# Altium footprint library FCI SMD.PcbLib: 11 footprints
Each footprint in its own frame and in the unit in brackets; x right, y up, seen from the top. Pads: shape width x height; smd on the part's side, far side on the other; paste and mask are expansions set on the pad; w line width, h text height; cw(c..) or ccw(c..) is an arc to the next point about the centre after c.
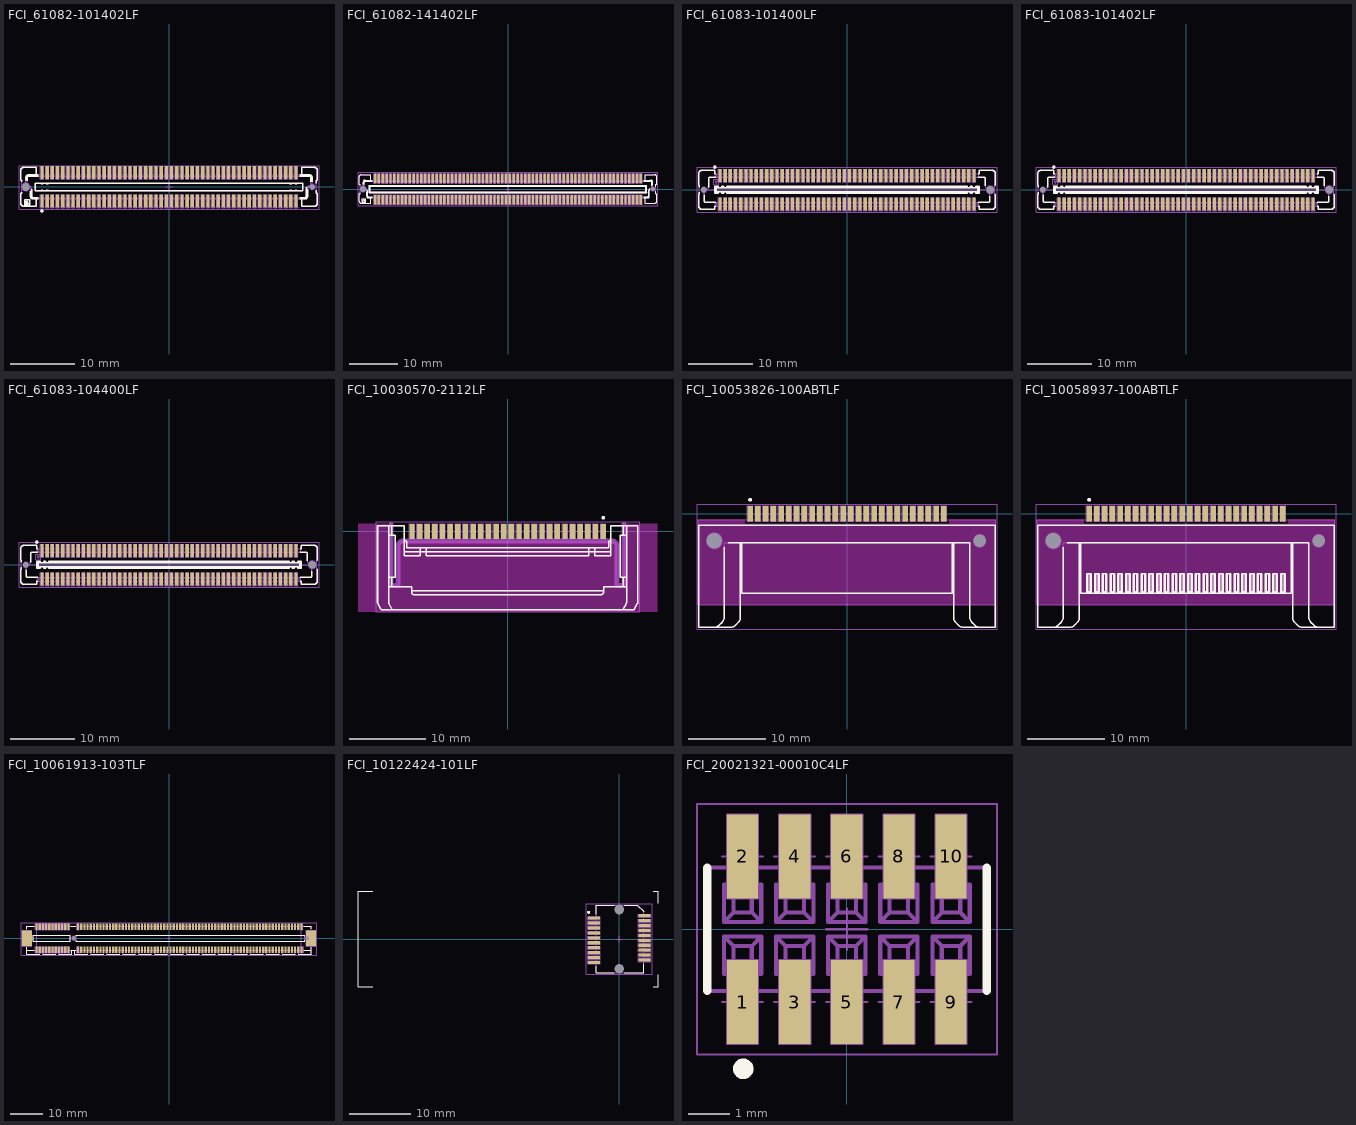
[diagram p0: the footprints below, top view; thin cyan lines are the x and y axes]

## FCI_61082-101402LF [mm] "100 Positions, Pitch 0.8mm, Dual Row, Surface Mount Board to Board Vertical Receptacle, Bergstak®"
height 4
pads (102):
  rect 0.5x2 smd: 1(-19.6,-2.2) 2(-19.6,2.2) 3(-18.8,-2.2) 4(-18.8,2.2) 5(-18,-2.2) 6(-18,2.2) 7(-17.2,-2.2) 8(-17.2,2.2) 9(-16.4,-2.2) 10(-16.4,2.2) 11(-15.6,-2.2) 12(-15.6,2.2) 13(-14.8,-2.2) 14(-14.8,2.2) 15(-14,-2.2) 16(-14,2.2) 17(-13.2,-2.2) 18(-13.2,2.2) 19(-12.4,-2.2) 20(-12.4,2.2) 21(-11.6,-2.2) 22(-11.6,2.2) 23(-10.8,-2.2) 24(-10.8,2.2) 25(-10,-2.2) 26(-10,2.2) 27(-9.2,-2.2) 28(-9.2,2.2) 29(-8.4,-2.2) 30(-8.4,2.2) 31(-7.6,-2.2) 32(-7.6,2.2) 33(-6.8,-2.2) 34(-6.8,2.2) 35(-6,-2.2) 36(-6,2.2) 37(-5.2,-2.2) 38(-5.2,2.2) 39(-4.4,-2.2) 40(-4.4,2.2) 41(-3.6,-2.2) 42(-3.6,2.2) 43(-2.8,-2.2) 44(-2.8,2.2) 45(-2,-2.2) 46(-2,2.2) 47(-1.2,-2.2) 48(-1.2,2.2) 49(-0.4,-2.2) 50(-0.4,2.2) 51(0.4,-2.2) 52(0.4,2.2) 53(1.2,-2.2) 54(1.2,2.2) 55(2,-2.2) 56(2,2.2) 57(2.8,-2.2) 58(2.8,2.2) 59(3.6,-2.2) 60(3.6,2.2) 61(4.4,-2.2) 62(4.4,2.2) 63(5.2,-2.2) 64(5.2,2.2) 65(6,-2.2) 66(6,2.2) 67(6.8,-2.2) 68(6.8,2.2) 69(7.6,-2.2) 70(7.6,2.2) 71(8.4,-2.2) 72(8.4,2.2) 73(9.2,-2.2) 74(9.2,2.2) 75(10,-2.2) 76(10,2.2) 77(10.8,-2.2) 78(10.8,2.2) 79(11.6,-2.2) 80(11.6,2.2) 81(12.4,-2.2) 82(12.4,2.2) 83(13.2,-2.2) 84(13.2,2.2) 85(14,-2.2) 86(14,2.2) 87(14.8,-2.2) 88(14.8,2.2) 89(15.6,-2.2) 90(15.6,2.2) 91(16.4,-2.2) 92(16.4,2.2) 93(17.2,-2.2) 94(17.2,2.2) 95(18,-2.2) 96(18,2.2) 97(18.8,-2.2) 98(18.8,2.2) 99(19.6,-2.2) 100(19.6,2.2)
  round 0.5 hole 0.8 unplated mask+0.15: Mec1(22.1,0)
  round 1 hole 1.2 unplated mask+0.1: Mec2(-22.1,0)
Top Overlay:
  circle w0.25: c-19.625,-3.7 r0.125
  lines w0.2: -22.7,-0.8 -22.7,-1 -22.9,-1 -22.9,-2.5 ccw(c-22.4,-2.5) -22.4,-3 -20.525,-3 -20.525,-1.85 ; -22.7,0.8 -22.7,1 -22.9,1 -22.9,2.5 cw(c-22.4,2.5) -22.4,3 -20.525,3 -20.525,1.85 ; -22.075,1 -22.075,1.45 cw(c-21.675,1.45) -21.675,1.85 -20.2,1.85 ; -21.875,0.974 -21.875,1.45 cw(c-21.675,1.45) -21.675,1.65 -20.2,1.65 ; -21.38,-0.694 -21.38,-1.45 ccw(c-20.98,-1.45) -20.98,-1.85 -20.2,-1.85 ; -21.18,-0.392 -21.18,-1.45 ccw(c-20.98,-1.45) -20.98,-1.65 -20.2,-1.65 ; -19.75,-0.57 -19.75,-0.49 -19.45,-0.49 -19.45,-0.57 ; -19.75,0.57 -19.75,0.49 -19.45,0.49 -19.45,0.57 ; -18.95,-0.57 -18.95,-0.49 -18.65,-0.49 -18.65,-0.57 ; -18.95,0.57 -18.95,0.49 -18.65,0.49 -18.65,0.57 ; 18.65,-0.57 18.65,-0.49 18.95,-0.49 18.95,-0.57 ; 18.65,0.57 18.65,0.49 18.95,0.49 18.95,0.57 ; 19.45,-0.57 19.45,-0.49 19.75,-0.49 19.75,-0.57 ; 19.45,0.57 19.45,0.49 19.75,0.49 19.75,0.57 ; 20.2,-1.85 20.98,-1.85 ccw(c20.98,-1.45) 21.38,-1.45 21.38,-0.35 cw(c21.68,-0.35) 21.38,-0.349 ; 20.2,-1.65 20.98,-1.65 ccw(c20.98,-1.45) 21.18,-1.45 21.18,-0.35 cw(c21.68,-0.35) 21.3,-0.025 ; 20.2,1.65 21.675,1.65 cw(c21.675,1.45) 21.875,1.45 21.875,0.768 ; 20.2,1.85 21.675,1.85 cw(c21.675,1.45) 22.075,1.45 22.075,0.8 ; 20.525,-1.85 20.525,-3 22.4,-3 ccw(c22.4,-2.5) 22.9,-2.5 22.9,-1 22.7,-1 22.7,-0.529 ; 20.525,1.85 20.525,3 22.4,3 cw(c22.4,2.5) 22.9,2.5 22.9,1 22.7,1 22.7,0.529 ; -22.3,-2.8 -21.5,-2.8 -21.5,-2 -22.3,-2 -22.3,-2.8 ; -22.15,-2.6 -21.688,-2.6 -21.919,-2.2 -22.15,-2.6 ; -20.615,-0.57 -20.615,0.57 20.615,0.57 20.615,-0.57 -20.615,-0.57
Mechanical 8:
  drawing of 614 lines, arcs and shapes, not listed
Mechanical 14:
  circle w0.1: c-19.625,-3.7 r0.2
  lines w0.1: -20.525,-1.85 -20.525,-3 -22.4,-3 cw(c-22.4,-2.5) -22.9,-2.5 -22.9,-1 -22.7,-1 -22.7,1 -22.9,1 -22.9,2.5 cw(c-22.4,2.5) -22.4,3 -20.525,3 -20.525,1.85 ; -19.75,-0.57 -19.75,-0.49 -19.45,-0.49 -19.45,-0.57 ; -19.75,0.57 -19.75,0.49 -19.45,0.49 -19.45,0.57 ; -18.95,-0.57 -18.95,-0.49 -18.65,-0.49 -18.65,-0.57 ; -18.95,0.57 -18.95,0.49 -18.65,0.49 -18.65,0.57 ; 18.65,-0.57 18.65,-0.49 18.95,-0.49 18.95,-0.57 ; 18.65,0.57 18.65,0.49 18.95,0.49 18.95,0.57 ; 19.45,-0.57 19.45,-0.49 19.75,-0.49 19.75,-0.57 ; 19.45,0.57 19.45,0.49 19.75,0.49 19.75,0.57 ; 20.525,-1.85 20.525,-3 22.4,-3 ccw(c22.4,-2.5) 22.9,-2.5 22.9,-1 22.7,-1 22.7,1 22.9,1 22.9,2.5 ccw(c22.4,2.5) 22.4,3 20.525,3 20.525,1.85 ; -22.3,-2.8 -21.5,-2.8 -21.5,-2 -22.3,-2 -22.3,-2.8 ; -22.15,-2.6 -21.688,-2.6 -21.919,-2.2 -22.15,-2.6 ; -22.075,0.35 ccw(c-21.675,0.35) -21.678,-0.05 cw(c-21.68,-0.35) -21.38,-0.35 -21.38,-1.45 ccw(c-20.98,-1.45) -20.98,-1.85 20.98,-1.85 ccw(c20.98,-1.45) 21.38,-1.45 21.38,-0.35 cw(c21.68,-0.35) 21.678,-0.05 ccw(c21.675,0.35) 22.075,0.35 22.075,1.45 ccw(c21.675,1.45) 21.675,1.85 -21.675,1.85 ccw(c-21.675,1.45) -22.075,1.45 -22.075,0.35 ; -21.875,0.35 ccw(c-21.675,0.35) -21.676,0.15 cw(c-21.68,-0.35) -21.18,-0.35 -21.18,-1.45 ccw(c-20.98,-1.45) -20.98,-1.65 20.98,-1.65 ccw(c20.98,-1.45) 21.18,-1.45 21.18,-0.35 cw(c21.68,-0.35) 21.676,0.15 ccw(c21.675,0.35) 21.875,0.35 21.875,1.45 ccw(c21.675,1.45) 21.675,1.65 -21.675,1.65 ccw(c-21.675,1.45) -21.875,1.45 -21.875,0.35 ; -20.615,-0.57 -20.615,0.57 20.615,0.57 20.615,-0.57 -20.615,-0.57
Mechanical 15:
  lines w0.05: -23.15,-3.45 -23.15,3.25 23.15,3.25 23.15,-3.45 -23.15,-3.45
3D body "FCI_61082-101402LF.stp": height 3.7, standoff -0.64, extent -22.9,-3 22.9,3

## FCI_61082-141402LF [mm] "140 Positions, Pitch 0.8mm, Dual Row, Surface Mount Board to Board Vertical Receptacle, Bergstak®"
height 3.7
pads (142):
  rect 0.5x2 smd: 1(-27.6,-2.2) 2(-27.6,2.2) 3(-26.8,-2.2) 4(-26.8,2.2) 5(-26,-2.2) 6(-26,2.2) 7(-25.2,-2.2) 8(-25.2,2.2) 9(-24.4,-2.2) 10(-24.4,2.2) 11(-23.6,-2.2) 12(-23.6,2.2) 13(-22.8,-2.2) 14(-22.8,2.2) 15(-22,-2.2) 16(-22,2.2) 17(-21.2,-2.2) 18(-21.2,2.2) 19(-20.4,-2.2) 20(-20.4,2.2) 21(-19.6,-2.2) 22(-19.6,2.2) 23(-18.8,-2.2) 24(-18.8,2.2) 25(-18,-2.2) 26(-18,2.2) 27(-17.2,-2.2) 28(-17.2,2.2) 29(-16.4,-2.2) 30(-16.4,2.2) 31(-15.6,-2.2) 32(-15.6,2.2) 33(-14.8,-2.2) 34(-14.8,2.2) 35(-14,-2.2) 36(-14,2.2) 37(-13.2,-2.2) 38(-13.2,2.2) 39(-12.4,-2.2) 40(-12.4,2.2) 41(-11.6,-2.2) 42(-11.6,2.2) 43(-10.8,-2.2) 44(-10.8,2.2) 45(-10,-2.2) 46(-10,2.2) 47(-9.2,-2.2) 48(-9.2,2.2) 49(-8.4,-2.2) 50(-8.4,2.2) 51(-7.6,-2.2) 52(-7.6,2.2) 53(-6.8,-2.2) 54(-6.8,2.2) 55(-6,-2.2) 56(-6,2.2) 57(-5.2,-2.2) 58(-5.2,2.2) 59(-4.4,-2.2) 60(-4.4,2.2) 61(-3.6,-2.2) 62(-3.6,2.2) 63(-2.8,-2.2) 64(-2.8,2.2) 65(-2,-2.2) 66(-2,2.2) 67(-1.2,-2.2) 68(-1.2,2.2) 69(-0.4,-2.2) 70(-0.4,2.2) 71(0.4,-2.2) 72(0.4,2.2) 73(1.2,-2.2) 74(1.2,2.2) 75(2,-2.2) 76(2,2.2) 77(2.8,-2.2) 78(2.8,2.2) 79(3.6,-2.2) 80(3.6,2.2) 81(4.4,-2.2) 82(4.4,2.2) 83(5.2,-2.2) 84(5.2,2.2) 85(6,-2.2) 86(6,2.2) 87(6.8,-2.2) 88(6.8,2.2) 89(7.6,-2.2) 90(7.6,2.2) 91(8.4,-2.2) 92(8.4,2.2) 93(9.2,-2.2) 94(9.2,2.2) 95(10,-2.2) 96(10,2.2) 97(10.8,-2.2) 98(10.8,2.2) 99(11.6,-2.2) 100(11.6,2.2) 101(12.4,-2.2) 102(12.4,2.2) 103(13.2,-2.2) 104(13.2,2.2) 105(14,-2.2) 106(14,2.2) 107(14.8,-2.2) 108(14.8,2.2) 109(15.6,-2.2) 110(15.6,2.2) 111(16.4,-2.2) 112(16.4,2.2) 113(17.2,-2.2) 114(17.2,2.2) 115(18,-2.2) 116(18,2.2) 117(18.8,-2.2) 118(18.8,2.2) 119(19.6,-2.2) 120(19.6,2.2) 121(20.4,-2.2) 122(20.4,2.2) 123(21.2,-2.2) 124(21.2,2.2) 125(22,-2.2) 126(22,2.2) 127(22.8,-2.2) 128(22.8,2.2) 129(23.6,-2.2) 130(23.6,2.2) 131(24.4,-2.2) 132(24.4,2.2) 133(25.2,-2.2) 134(25.2,2.2) 135(26,-2.2) 136(26,2.2) 137(26.8,-2.2) 138(26.8,2.2) 139(27.6,-2.2) 140(27.6,2.2)
  round 1 hole 1.2 unplated mask+0.1: MECH1(-30.1,0)
  round 0.5 hole 0.8 unplated mask+0.15: MECH2(30.1,0)
Top Overlay:
  lines w0.2: -30.7,-0.737 -30.7,-1 -30.9,-1 -30.9,-2.5 ccw(c-30.4,-2.5) -30.4,-3 -28.525,-3 -28.525,-1.85 ; -30.7,0.737 -30.7,1 -30.9,1 -30.9,2.5 cw(c-30.4,2.5) -30.4,3 -28.525,3 -28.525,1.85 ; -30.075,0.95 -30.075,1.45 cw(c-29.675,1.45) -29.675,1.85 -28.2,1.85 ; -29.875,0.923 -29.875,1.45 cw(c-29.675,1.45) -29.675,1.65 -28.2,1.65 ; -29.38,-0.62 -29.38,-1.45 ccw(c-28.98,-1.45) -28.98,-1.85 -28.2,-1.85 ; -29.187,-0.264 cw(c-29.68,-0.35) -29.18,-0.35 -29.18,-1.45 ccw(c-28.98,-1.45) -28.98,-1.65 -28.2,-1.65 ; -28.814,-0.769 -28.615,-0.57 ; 28.2,-1.85 28.98,-1.85 ccw(c28.98,-1.45) 29.38,-1.45 29.38,-0.35 cw(c29.68,-0.35) 29.395,-0.256 ; 28.2,-1.65 28.98,-1.65 ccw(c28.98,-1.45) 29.18,-1.45 29.18,-0.35 cw(c29.68,-0.35) 29.35,0.026 ; 28.2,1.65 29.675,1.65 cw(c29.675,1.45) 29.875,1.45 29.875,0.715 ; 28.2,1.85 29.675,1.85 cw(c29.675,1.45) 30.075,1.45 30.075,0.75 ; 28.525,-1.85 28.525,-3 30.4,-3 ccw(c30.4,-2.5) 30.9,-2.5 30.9,-1 30.7,-1 30.7,-0.45 ; 28.525,1.85 28.525,3 30.4,3 cw(c30.4,2.5) 30.9,2.5 30.9,1 30.7,1 30.7,0.45 ; 28.814,0.769 -28.815,0.77 ; -28.815,0.77 -28.615,0.57 ; -28.815,0.77 -28.815,-0.77 28.815,-0.77 ; -28.615,-0.57 -28.615,0.57 ; -28.615,-0.57 28.615,-0.57 ; -28.615,0.57 28.615,0.57 ; 28.615,-0.57 28.815,-0.77 ; 28.615,-0.57 28.615,0.57 ; 28.615,0.57 28.815,0.77 28.815,-0.77 ; -30.3,-2.8 -30.3,-2 -29.5,-2 -29.5,-2.8 -30.3,-2.8 ; -30.15,-2.6 -29.688,-2.6 -29.919,-2.2 -30.15,-2.6
Mechanical 8:
  drawing of 854 lines, arcs and shapes, not listed
Mechanical 14:
  drawing of 489 lines, arcs and shapes, not listed
Mechanical 15:
  lines w0.05: -31.15,-3.45 31.15,-3.45 31.15,3.45 -31.15,3.45 -31.15,-3.45
3D body "FCI_61082-141402LF.stp": height 3.7, standoff -0.65, extent -30.9,-3 30.9,3

## FCI_61083-101400LF [mm] "100 Positions, Pitch 0.8mm, Dual Row, Surface Mount Board to Board Vertical Header, Bergstak®"
height 4.7
pads (102):
  rect 0.5x2 smd: 1(-19.6,2.2) 2(-19.6,-2.2) 3(-18.8,2.2) 4(-18.8,-2.2) 5(-18,2.2) 6(-18,-2.2) 7(-17.2,2.2) 8(-17.2,-2.2) 9(-16.4,2.2) 10(-16.4,-2.2) 11(-15.6,2.2) 12(-15.6,-2.2) 13(-14.8,2.2) 14(-14.8,-2.2) 15(-14,2.2) 16(-14,-2.2) 17(-13.2,2.2) 18(-13.2,-2.2) 19(-12.4,2.2) 20(-12.4,-2.2) 21(-11.6,2.2) 22(-11.6,-2.2) 23(-10.8,2.2) 24(-10.8,-2.2) 25(-10,2.2) 26(-10,-2.2) 27(-9.2,2.2) 28(-9.2,-2.2) 29(-8.4,2.2) 30(-8.4,-2.2) 31(-7.6,2.2) 32(-7.6,-2.2) 33(-6.8,2.2) 34(-6.8,-2.2) 35(-6,2.2) 36(-6,-2.2) 37(-5.2,2.2) 38(-5.2,-2.2) 39(-4.4,2.2) 40(-4.4,-2.2) 41(-3.6,2.2) 42(-3.6,-2.2) 43(-2.8,2.2) 44(-2.8,-2.2) 45(-2,2.2) 46(-2,-2.2) 47(-1.2,2.2) 48(-1.2,-2.2) 49(-0.4,2.2) 50(-0.4,-2.2) 51(0.4,2.2) 52(0.4,-2.2) 53(1.2,2.2) 54(1.2,-2.2) 55(2,2.2) 56(2,-2.2) 57(2.8,2.2) 58(2.8,-2.2) 59(3.6,2.2) 60(3.6,-2.2) 61(4.4,2.2) 62(4.4,-2.2) 63(5.2,2.2) 64(5.2,-2.2) 65(6,2.2) 66(6,-2.2) 67(6.8,2.2) 68(6.8,-2.2) 69(7.6,2.2) 70(7.6,-2.2) 71(8.4,2.2) 72(8.4,-2.2) 73(9.2,2.2) 74(9.2,-2.2) 75(10,2.2) 76(10,-2.2) 77(10.8,2.2) 78(10.8,-2.2) 79(11.6,2.2) 80(11.6,-2.2) 81(12.4,2.2) 82(12.4,-2.2) 83(13.2,2.2) 84(13.2,-2.2) 85(14,2.2) 86(14,-2.2) 87(14.8,2.2) 88(14.8,-2.2) 89(15.6,2.2) 90(15.6,-2.2) 91(16.4,2.2) 92(16.4,-2.2) 93(17.2,2.2) 94(17.2,-2.2) 95(18,2.2) 96(18,-2.2) 97(18.8,2.2) 98(18.8,-2.2) 99(19.6,2.2) 100(19.6,-2.2)
  round 0.5 hole 0.8 unplated mask+0.15: Mec1(-22.1,0)
  round 1 hole 1.2 unplated mask+0.1: Mec2(22.1,0)
Top Overlay:
  circle w0.25: c-20.4,3.5 r0.125
  lines w0.2: -22.8,-0.387 -22.8,-0.7 -22.9,-0.7 -22.9,-2.5 ccw(c-22.4,-2.5) -22.4,-3 -20.4,-3 -20.4,-2.5 -20.25,-2.5 ; -22.8,0.387 -22.8,0.7 -22.9,0.7 -22.9,2.5 cw(c-22.4,2.5) -22.4,3 -20.4,3 -20.4,2.5 -20.25,2.5 ; -22.015,-0.795 -22.015,-1.8 ccw(c-21.915,-1.8) -21.915,-1.9 -20.25,-1.9 ; -21.393,0.375 ccw(c-21.84,0.6) -21.34,0.6 -21.34,1.8 cw(c-21.24,1.8) -21.24,1.9 -20.25,1.9 ; -19.847,-0.325 -19.847,-0.515 -20.4,-0.515 ; -19.847,0.325 -19.847,0.515 -20.4,0.515 ; -19.354,-0.325 -19.354,-0.515 -19.047,-0.515 -19.047,-0.325 ; -19.354,0.325 -19.354,0.515 -19.047,0.515 -19.047,0.325 ; -18.554,-0.325 -18.554,-0.515 18.554,-0.515 18.554,-0.325 ; -18.554,0.325 -18.554,0.515 18.554,0.515 18.554,0.325 ; 19.047,-0.325 19.047,-0.515 19.354,-0.515 19.354,-0.325 ; 19.047,0.325 19.047,0.515 19.354,0.515 19.354,0.325 ; 19.847,-0.325 19.847,-0.515 20.4,-0.515 ; 19.847,0.325 19.847,0.515 20.4,0.515 ; 20.25,-2.5 20.4,-2.5 20.4,-3 22.4,-3 ccw(c22.4,-2.5) 22.9,-2.5 22.9,-0.7 22.814,-0.7 ; 20.25,-1.9 21.915,-1.9 ccw(c21.915,-1.8) 22.015,-1.8 22.015,-0.996 ; 20.25,1.9 21.24,1.9 cw(c21.24,1.8) 21.34,1.8 21.34,0.65 ; 20.25,2.5 20.4,2.5 20.4,3 22.4,3 cw(c22.4,2.5) 22.9,2.5 22.9,0.7 22.814,0.7 ; -20.4,-0.515 -20.21,-0.325 ; -20.4,-0.515 -20.4,0.515 ; -20.4,0.515 -20.21,0.325 ; -20.21,-0.325 -20.21,0.325 ; -20.21,-0.325 20.21,-0.325 ; -20.21,0.325 20.21,0.325 ; 20.21,-0.325 20.4,-0.515 ; 20.21,-0.325 20.21,0.325 ; 20.21,0.325 20.4,0.515 ; 20.4,-0.515 20.4,0.515
Mechanical 8:
  drawing of 615 lines, arcs and shapes, not listed
Mechanical 14:
  circle w0.1: c-20.4,3.5 r0.2
  lines w0.1: -20.325,-2.5 -20.325,-2 20.325,-2 20.325,-2.5 ; -20.325,2.5 -20.325,2 20.325,2 20.325,2.5 ; -20.248,-2 -20.075,-2.2 -20.075,-2.5 ; -20.248,2 -20.075,2.2 -20.075,2.5 ; -19.847,-0.325 -19.847,-0.515 -20.4,-0.515 ; -19.847,0.325 -19.847,0.515 -20.4,0.515 ; -19.354,-0.325 -19.354,-0.515 -19.047,-0.515 -19.047,-0.325 ; -19.354,0.325 -19.354,0.515 -19.047,0.515 -19.047,0.325 ; -18.554,-0.325 -18.554,-0.515 18.554,-0.515 18.554,-0.325 ; -18.554,0.325 -18.554,0.515 18.554,0.515 18.554,0.325 ; 19.047,-0.325 19.047,-0.515 19.354,-0.515 19.354,-0.325 ; 19.047,0.325 19.047,0.515 19.354,0.515 19.354,0.325 ; 19.847,-0.325 19.847,-0.515 20.4,-0.515 ; 19.847,0.325 19.847,0.515 20.4,0.515 ; 20.075,-2.5 20.075,-2.2 20.248,-2 ; -20.4,-0.515 -20.21,-0.325 ; -20.4,-0.515 -20.4,0.515 ; -20.4,0.515 -20.21,0.325 ; -20.21,-0.325 -20.21,0.325 ; -20.21,-0.325 20.21,-0.325 ; -20.21,0.325 20.21,0.325 ; 20.21,-0.325 20.4,-0.515 ; 20.21,-0.325 20.21,0.325 ; 20.21,0.325 20.4,0.515 ; 20.4,-0.515 20.4,0.515 ; -22.9,-2.5 ccw(c-22.4,-2.5) -22.4,-3 -20.4,-3 -20.4,-2.5 20.4,-2.5 20.4,-3 22.4,-3 ccw(c22.4,-2.5) 22.9,-2.5 22.9,-0.7 22.8,-0.7 22.8,0.7 22.9,0.7 22.9,2.5 ccw(c22.4,2.5) 22.4,3 20.4,3 20.4,2.5 -20.4,2.5 -20.4,3 -22.4,3 ccw(c-22.4,2.5) -22.9,2.5 -22.9,0.7 -22.8,0.7 -22.8,-0.7 -22.9,-0.7 -22.9,-2.5 ; -22.015,-1.8 ccw(c-21.915,-1.8) -21.915,-1.9 21.915,-1.9 ccw(c21.915,-1.8) 22.015,-1.8 22.015,0 ccw(c21.915,0) 21.915,0.1 21.84,0.1 cw(c21.84,0.6) 21.34,0.6 21.34,1.8 ccw(c21.24,1.8) 21.24,1.9 -21.24,1.9 ccw(c-21.24,1.8) -21.34,1.8 -21.34,0.6 cw(c-21.84,0.6) -21.84,0.1 -21.915,0.1 ccw(c-21.915,0) -22.015,0 -22.015,-1.8 ; -20.6,0.8 -20.6,1.6 -19.8,1.6 -19.8,0.8 -20.6,0.8 ; -20.412,1.4 -20.181,1 -19.95,1.4 -20.412,1.4
Mechanical 15:
  lines w0.05: -23.15,-3.45 -23.15,3.45 23.15,3.45 23.15,-3.45 -23.15,-3.45
3D body "FCI_61083-101400LF.stp": height 4.7, standoff -0.65, extent -22.9,-3 22.9,3

## FCI_61083-101402LF [mm] "100 Positions, Pitch 0.8mm, Dual Row, Surface Mount Board to Board Vertical Header, Bergstak®"
height 4.7
pads (102):
  rect 0.5x2 smd: 1(-19.6,2.2) 2(-19.6,-2.2) 3(-18.8,2.2) 4(-18.8,-2.2) 5(-18,2.2) 6(-18,-2.2) 7(-17.2,2.2) 8(-17.2,-2.2) 9(-16.4,2.2) 10(-16.4,-2.2) 11(-15.6,2.2) 12(-15.6,-2.2) 13(-14.8,2.2) 14(-14.8,-2.2) 15(-14,2.2) 16(-14,-2.2) 17(-13.2,2.2) 18(-13.2,-2.2) 19(-12.4,2.2) 20(-12.4,-2.2) 21(-11.6,2.2) 22(-11.6,-2.2) 23(-10.8,2.2) 24(-10.8,-2.2) 25(-10,2.2) 26(-10,-2.2) 27(-9.2,2.2) 28(-9.2,-2.2) 29(-8.4,2.2) 30(-8.4,-2.2) 31(-7.6,2.2) 32(-7.6,-2.2) 33(-6.8,2.2) 34(-6.8,-2.2) 35(-6,2.2) 36(-6,-2.2) 37(-5.2,2.2) 38(-5.2,-2.2) 39(-4.4,2.2) 40(-4.4,-2.2) 41(-3.6,2.2) 42(-3.6,-2.2) 43(-2.8,2.2) 44(-2.8,-2.2) 45(-2,2.2) 46(-2,-2.2) 47(-1.2,2.2) 48(-1.2,-2.2) 49(-0.4,2.2) 50(-0.4,-2.2) 51(0.4,2.2) 52(0.4,-2.2) 53(1.2,2.2) 54(1.2,-2.2) 55(2,2.2) 56(2,-2.2) 57(2.8,2.2) 58(2.8,-2.2) 59(3.6,2.2) 60(3.6,-2.2) 61(4.4,2.2) 62(4.4,-2.2) 63(5.2,2.2) 64(5.2,-2.2) 65(6,2.2) 66(6,-2.2) 67(6.8,2.2) 68(6.8,-2.2) 69(7.6,2.2) 70(7.6,-2.2) 71(8.4,2.2) 72(8.4,-2.2) 73(9.2,2.2) 74(9.2,-2.2) 75(10,2.2) 76(10,-2.2) 77(10.8,2.2) 78(10.8,-2.2) 79(11.6,2.2) 80(11.6,-2.2) 81(12.4,2.2) 82(12.4,-2.2) 83(13.2,2.2) 84(13.2,-2.2) 85(14,2.2) 86(14,-2.2) 87(14.8,2.2) 88(14.8,-2.2) 89(15.6,2.2) 90(15.6,-2.2) 91(16.4,2.2) 92(16.4,-2.2) 93(17.2,2.2) 94(17.2,-2.2) 95(18,2.2) 96(18,-2.2) 97(18.8,2.2) 98(18.8,-2.2) 99(19.6,2.2) 100(19.6,-2.2)
  round 0.5 hole 0.8 unplated mask+0.15: Mec1(-22.1,0)
  round 1 hole 1.2 unplated mask+0.1: Mec2(22.1,0)
Top Overlay:
  circle w0.25: c-20.4,3.5 r0.125
  lines w0.2: -22.8,-0.387 -22.8,-0.7 -22.9,-0.7 -22.9,-2.5 ccw(c-22.4,-2.5) -22.4,-3 -20.4,-3 -20.4,-2.5 -20.25,-2.5 ; -22.8,0.387 -22.8,0.7 -22.9,0.7 -22.9,2.5 cw(c-22.4,2.5) -22.4,3 -20.4,3 -20.4,2.5 -20.25,2.5 ; -22.015,-0.795 -22.015,-1.8 ccw(c-21.915,-1.8) -21.915,-1.9 -20.25,-1.9 ; -21.393,0.375 ccw(c-21.84,0.6) -21.34,0.6 -21.34,1.8 cw(c-21.24,1.8) -21.24,1.9 -20.25,1.9 ; -19.847,-0.325 -19.847,-0.515 -20.4,-0.515 ; -19.847,0.325 -19.847,0.515 -20.4,0.515 ; -19.354,-0.325 -19.354,-0.515 -19.047,-0.515 -19.047,-0.325 ; -19.354,0.325 -19.354,0.515 -19.047,0.515 -19.047,0.325 ; -18.554,-0.325 -18.554,-0.515 18.554,-0.515 18.554,-0.325 ; -18.554,0.325 -18.554,0.515 18.554,0.515 18.554,0.325 ; 19.047,-0.325 19.047,-0.515 19.354,-0.515 19.354,-0.325 ; 19.047,0.325 19.047,0.515 19.354,0.515 19.354,0.325 ; 19.847,-0.325 19.847,-0.515 20.4,-0.515 ; 19.847,0.325 19.847,0.515 20.4,0.515 ; 20.25,-2.5 20.4,-2.5 20.4,-3 22.4,-3 ccw(c22.4,-2.5) 22.9,-2.5 22.9,-0.7 22.814,-0.7 ; 20.25,-1.9 21.915,-1.9 ccw(c21.915,-1.8) 22.015,-1.8 22.015,-0.996 ; 20.25,1.9 21.24,1.9 cw(c21.24,1.8) 21.34,1.8 21.34,0.65 ; 20.25,2.5 20.4,2.5 20.4,3 22.4,3 cw(c22.4,2.5) 22.9,2.5 22.9,0.7 22.814,0.7 ; -20.4,-0.515 -20.21,-0.325 ; -20.4,-0.515 -20.4,0.515 ; -20.4,0.515 -20.21,0.325 ; -20.21,-0.325 -20.21,0.325 ; -20.21,-0.325 20.21,-0.325 ; -20.21,0.325 20.21,0.325 ; 20.21,-0.325 20.4,-0.515 ; 20.21,-0.325 20.21,0.325 ; 20.21,0.325 20.4,0.515 ; 20.4,-0.515 20.4,0.515
Mechanical 8:
  drawing of 615 lines, arcs and shapes, not listed
Mechanical 14:
  circle w0.1: c-20.4,3.5 r0.2
  lines w0.1: -20.325,-2.5 -20.325,-2 20.325,-2 20.325,-2.5 ; -20.325,2.5 -20.325,2 20.325,2 20.325,2.5 ; -20.248,-2 -20.075,-2.2 -20.075,-2.5 ; -20.248,2 -20.075,2.2 -20.075,2.5 ; -19.847,-0.325 -19.847,-0.515 -20.4,-0.515 ; -19.847,0.325 -19.847,0.515 -20.4,0.515 ; -19.354,-0.325 -19.354,-0.515 -19.047,-0.515 -19.047,-0.325 ; -19.354,0.325 -19.354,0.515 -19.047,0.515 -19.047,0.325 ; -18.554,-0.325 -18.554,-0.515 18.554,-0.515 18.554,-0.325 ; -18.554,0.325 -18.554,0.515 18.554,0.515 18.554,0.325 ; 19.047,-0.325 19.047,-0.515 19.354,-0.515 19.354,-0.325 ; 19.047,0.325 19.047,0.515 19.354,0.515 19.354,0.325 ; 19.847,-0.325 19.847,-0.515 20.4,-0.515 ; 19.847,0.325 19.847,0.515 20.4,0.515 ; 20.075,-2.5 20.075,-2.2 20.248,-2 ; -20.4,-0.515 -20.21,-0.325 ; -20.4,-0.515 -20.4,0.515 ; -20.4,0.515 -20.21,0.325 ; -20.21,-0.325 -20.21,0.325 ; -20.21,-0.325 20.21,-0.325 ; -20.21,0.325 20.21,0.325 ; 20.21,-0.325 20.4,-0.515 ; 20.21,-0.325 20.21,0.325 ; 20.21,0.325 20.4,0.515 ; 20.4,-0.515 20.4,0.515 ; -22.9,-2.5 ccw(c-22.4,-2.5) -22.4,-3 -20.4,-3 -20.4,-2.5 20.4,-2.5 20.4,-3 22.4,-3 ccw(c22.4,-2.5) 22.9,-2.5 22.9,-0.7 22.8,-0.7 22.8,0.7 22.9,0.7 22.9,2.5 ccw(c22.4,2.5) 22.4,3 20.4,3 20.4,2.5 -20.4,2.5 -20.4,3 -22.4,3 ccw(c-22.4,2.5) -22.9,2.5 -22.9,0.7 -22.8,0.7 -22.8,-0.7 -22.9,-0.7 -22.9,-2.5 ; -22.015,-1.8 ccw(c-21.915,-1.8) -21.915,-1.9 21.915,-1.9 ccw(c21.915,-1.8) 22.015,-1.8 22.015,0 ccw(c21.915,0) 21.915,0.1 21.84,0.1 cw(c21.84,0.6) 21.34,0.6 21.34,1.8 ccw(c21.24,1.8) 21.24,1.9 -21.24,1.9 ccw(c-21.24,1.8) -21.34,1.8 -21.34,0.6 cw(c-21.84,0.6) -21.84,0.1 -21.915,0.1 ccw(c-21.915,0) -22.015,0 -22.015,-1.8 ; -20.6,0.8 -20.6,1.6 -19.8,1.6 -19.8,0.8 -20.6,0.8 ; -20.412,1.4 -20.181,1 -19.95,1.4 -20.412,1.4
Mechanical 15:
  lines w0.05: -23.15,-3.45 -23.15,3.45 23.15,3.45 23.15,-3.45 -23.15,-3.45
3D body "FCI_61083-101402LF.stp": height 4.7, standoff -0.65, extent -22.9,-3 22.9,3

## FCI_61083-104400LF [mm] "100 Positions, Pitch 0.8mm, Dual Row, Surface Mount Board to Board Vertical Header, Bergstak®"
height 7.7
pads (102):
  rect 0.5x2 smd: 1(-19.6,2.2) 2(-19.6,-2.2) 3(-18.8,2.2) 4(-18.8,-2.2) 5(-18,2.2) 6(-18,-2.2) 7(-17.2,2.2) 8(-17.2,-2.2) 9(-16.4,2.2) 10(-16.4,-2.2) 11(-15.6,2.2) 12(-15.6,-2.2) 13(-14.8,2.2) 14(-14.8,-2.2) 15(-14,2.2) 16(-14,-2.2) 17(-13.2,2.2) 18(-13.2,-2.2) 19(-12.4,2.2) 20(-12.4,-2.2) 21(-11.6,2.2) 22(-11.6,-2.2) 23(-10.8,2.2) 24(-10.8,-2.2) 25(-10,2.2) 26(-10,-2.2) 27(-9.2,2.2) 28(-9.2,-2.2) 29(-8.4,2.2) 30(-8.4,-2.2) 31(-7.6,2.2) 32(-7.6,-2.2) 33(-6.8,2.2) 34(-6.8,-2.2) 35(-6,2.2) 36(-6,-2.2) 37(-5.2,2.2) 38(-5.2,-2.2) 39(-4.4,2.2) 40(-4.4,-2.2) 41(-3.6,2.2) 42(-3.6,-2.2) 43(-2.8,2.2) 44(-2.8,-2.2) 45(-2,2.2) 46(-2,-2.2) 47(-1.2,2.2) 48(-1.2,-2.2) 49(-0.4,2.2) 50(-0.4,-2.2) 51(0.4,2.2) 52(0.4,-2.2) 53(1.2,2.2) 54(1.2,-2.2) 55(2,2.2) 56(2,-2.2) 57(2.8,2.2) 58(2.8,-2.2) 59(3.6,2.2) 60(3.6,-2.2) 61(4.4,2.2) 62(4.4,-2.2) 63(5.2,2.2) 64(5.2,-2.2) 65(6,2.2) 66(6,-2.2) 67(6.8,2.2) 68(6.8,-2.2) 69(7.6,2.2) 70(7.6,-2.2) 71(8.4,2.2) 72(8.4,-2.2) 73(9.2,2.2) 74(9.2,-2.2) 75(10,2.2) 76(10,-2.2) 77(10.8,2.2) 78(10.8,-2.2) 79(11.6,2.2) 80(11.6,-2.2) 81(12.4,2.2) 82(12.4,-2.2) 83(13.2,2.2) 84(13.2,-2.2) 85(14,2.2) 86(14,-2.2) 87(14.8,2.2) 88(14.8,-2.2) 89(15.6,2.2) 90(15.6,-2.2) 91(16.4,2.2) 92(16.4,-2.2) 93(17.2,2.2) 94(17.2,-2.2) 95(18,2.2) 96(18,-2.2) 97(18.8,2.2) 98(18.8,-2.2) 99(19.6,2.2) 100(19.6,-2.2)
  round 0.5 hole 0.8 unplated mask+0.15: Mec1(-22.1,0)
  round 1 hole 1.2 unplated mask+0.1: Mec2(22.1,0)
Top Overlay:
  circle w0.25: c-20.4,3.5 r0.125
  lines w0.2: -22.8,-0.387 -22.8,-0.7 -22.9,-0.7 -22.9,-2.5 ccw(c-22.4,-2.5) -22.4,-3 -20.4,-3 -20.4,-2.5 -20.25,-2.5 ; -22.8,0.387 -22.8,0.7 -22.9,0.7 -22.9,2.5 cw(c-22.4,2.5) -22.4,3 -20.4,3 -20.4,2.5 -20.25,2.5 ; -22.015,-0.795 -22.015,-1.8 ccw(c-21.915,-1.8) -21.915,-1.9 -20.25,-1.9 ; -21.393,0.375 ccw(c-21.84,0.6) -21.34,0.6 -21.34,1.8 cw(c-21.24,1.8) -21.24,1.9 -20.25,1.9 ; -19.847,-0.325 -19.847,-0.515 -20.4,-0.515 ; -19.847,0.325 -19.847,0.515 -20.4,0.515 ; -19.354,-0.325 -19.354,-0.515 -19.047,-0.515 -19.047,-0.325 ; -19.354,0.325 -19.354,0.515 -19.047,0.515 -19.047,0.325 ; -18.554,-0.325 -18.554,-0.515 18.554,-0.515 18.554,-0.325 ; -18.554,0.325 -18.554,0.515 18.554,0.515 18.554,0.325 ; 19.047,-0.325 19.047,-0.515 19.354,-0.515 19.354,-0.325 ; 19.047,0.325 19.047,0.515 19.354,0.515 19.354,0.325 ; 19.847,-0.325 19.847,-0.515 20.4,-0.515 ; 19.847,0.325 19.847,0.515 20.4,0.515 ; 20.25,-2.5 20.4,-2.5 20.4,-3 22.4,-3 ccw(c22.4,-2.5) 22.9,-2.5 22.9,-0.7 22.814,-0.7 ; 20.25,-1.9 21.915,-1.9 ccw(c21.915,-1.8) 22.015,-1.8 22.015,-0.996 ; 20.25,1.9 21.24,1.9 cw(c21.24,1.8) 21.34,1.8 21.34,0.65 ; 20.25,2.5 20.4,2.5 20.4,3 22.4,3 cw(c22.4,2.5) 22.9,2.5 22.9,0.7 22.814,0.7 ; -20.4,-0.515 -20.4,0.515 ; -20.4,-0.515 -20.21,-0.325 ; -20.4,0.515 -20.21,0.325 ; -20.21,-0.325 20.21,-0.325 ; -20.21,-0.325 -20.21,0.325 ; -20.21,0.325 20.21,0.325 ; 20.21,-0.325 20.21,0.325 ; 20.21,-0.325 20.4,-0.515 ; 20.21,0.325 20.4,0.515 ; 20.4,-0.515 20.4,0.515
Mechanical 8:
  drawing of 615 lines, arcs and shapes, not listed
Mechanical 14:
  circle w0.1: c-20.4,3.5 r0.2
  lines w0.1: -20.325,-2.5 -20.325,-2 20.325,-2 20.325,-2.5 ; -20.325,2.5 -20.325,2 20.325,2 20.325,2.5 ; -20.248,-2 -20.075,-2.2 -20.075,-2.5 ; -20.248,2 -20.075,2.2 -20.075,2.5 ; -19.847,-0.325 -19.847,-0.515 -20.4,-0.515 ; -19.847,0.325 -19.847,0.515 -20.4,0.515 ; -19.354,-0.325 -19.354,-0.515 -19.047,-0.515 -19.047,-0.325 ; -19.354,0.325 -19.354,0.515 -19.047,0.515 -19.047,0.325 ; -18.554,-0.325 -18.554,-0.515 18.554,-0.515 18.554,-0.325 ; -18.554,0.325 -18.554,0.515 18.554,0.515 18.554,0.325 ; 19.047,-0.325 19.047,-0.515 19.354,-0.515 19.354,-0.325 ; 19.047,0.325 19.047,0.515 19.354,0.515 19.354,0.325 ; 19.847,-0.325 19.847,-0.515 20.4,-0.515 ; 19.847,0.325 19.847,0.515 20.4,0.515 ; 20.075,-2.5 20.075,-2.2 20.248,-2 ; -20.4,-0.515 -20.4,0.515 ; -20.4,-0.515 -20.21,-0.325 ; -20.4,0.515 -20.21,0.325 ; -20.21,-0.325 20.21,-0.325 ; -20.21,-0.325 -20.21,0.325 ; -20.21,0.325 20.21,0.325 ; 20.21,-0.325 20.21,0.325 ; 20.21,-0.325 20.4,-0.515 ; 20.21,0.325 20.4,0.515 ; 20.4,-0.515 20.4,0.515 ; -22.9,-2.5 ccw(c-22.4,-2.5) -22.4,-3 -20.4,-3 -20.4,-2.5 20.4,-2.5 20.4,-3 22.4,-3 ccw(c22.4,-2.5) 22.9,-2.5 22.9,-0.7 22.8,-0.7 22.8,0.7 22.9,0.7 22.9,2.5 ccw(c22.4,2.5) 22.4,3 20.4,3 20.4,2.5 -20.4,2.5 -20.4,3 -22.4,3 ccw(c-22.4,2.5) -22.9,2.5 -22.9,0.7 -22.8,0.7 -22.8,-0.7 -22.9,-0.7 -22.9,-2.5 ; -22.015,-1.8 ccw(c-21.915,-1.8) -21.915,-1.9 21.915,-1.9 ccw(c21.915,-1.8) 22.015,-1.8 22.015,0 ccw(c21.915,0) 21.915,0.1 21.84,0.1 cw(c21.84,0.6) 21.34,0.6 21.34,1.8 ccw(c21.24,1.8) 21.24,1.9 -21.24,1.9 ccw(c-21.24,1.8) -21.34,1.8 -21.34,0.6 cw(c-21.84,0.6) -21.84,0.1 -21.915,0.1 ccw(c-21.915,0) -22.015,0 -22.015,-1.8 ; -20.6,0.8 -19.8,0.8 -19.8,1.6 -20.6,1.6 -20.6,0.8 ; -20.412,1.4 -19.95,1.4 -20.181,1 -20.412,1.4
Mechanical 15:
  lines w0.05: -23.15,-3.45 23.15,-3.45 23.15,3.45 -23.15,3.45 -23.15,-3.45
3D body "FCI_61083-104400LF.stp": height 7.7, standoff -0.65, extent -22.9,-3 22.9,3

## FCI_10030570-2112LF [mm] "26 Contacts, Pitch 1mm, Surface Mount Card Edge ExpressCard Module Connector"
height 2.13
pads (26):
  rect 0.7x2 smd: 1(12.5,0) 2(11.5,0) 3(10.5,0) 4(9.5,0) 5(8.5,0) 6(7.5,0) 7(6.5,0) 8(5.5,0) 9(4.5,0) 10(3.5,0) 11(2.5,0) 12(1.5,0) 13(0.5,0) 14(-0.5,0) 15(-1.5,0) 16(-2.5,0) 17(-3.5,0) 18(-4.5,0) 19(-5.5,0) 20(-6.5,0) 21(-7.5,0) 22(-8.5,0) 23(-9.5,0) 24(-10.5,0) 25(-11.5,0) 26(-12.5,0)
Top Overlay:
  circle w0.25: c12.5,1.8 r0.125
  lines w0.2: -15.55,-7.25 -12.55,-7.25 -12.55,-7.95 ccw(c-12.25,-7.95) -12.25,-8.25 12.25,-8.25 ccw(c12.25,-7.95) 12.55,-7.95 12.55,-7.25 15.55,-7.25 ; -15.55,0.75 -15.55,-0.5 ; -15.15,-7.25 -15.15,-6 ; -15.15,-0.5 -15.15,0.75 ; -14.935,-10.25 cw(c-14.935,-10.05) -15.108,-10.15 -15.5,-9.471 cw(c-15.161,-9.278) -15.55,-9.25 -15.55,-6 ; -13.5,-2.65 13.5,-2.65 ; -12.55,-7.75 12.55,-7.75 ; -11.4,-2.15 -11.4,-3.15 -13.5,-3.15 -13.5,-1 ; -10.6,-2.15 -10.6,-3.15 10.6,-3.15 10.6,-2.15 ; 11.4,-2.15 11.4,-3.15 13.5,-3.15 13.5,-1 ; 14.935,-10.25 ccw(c14.935,-10.05) 15.108,-10.15 15.5,-9.471 ccw(c15.161,-9.278) 15.55,-9.25 15.55,-6 ; 15.15,-7.25 15.15,-6 ; 15.15,-0.5 15.15,0.75 ; 15.55,0.75 15.55,-0.5 ; -15.55,-6 -15.55,-0.5 ; -15.55,-6 -14.7,-6 -14.7,-0.5 -15.55,-0.5 ; -13.5,-1 ccw(c-13.25,-1) -13.25,-1.25 -13.2,-1.25 -13.2,-2.15 13.2,-2.15 13.2,-1.25 13.25,-1.25 ccw(c13.25,-1) 13.5,-1 ; -13.5,-1 -13.5,0.75 -17,0.75 -17,-9.33 ccw(c-16.8,-9.33) -16.973,-9.43 -16.558,-10.15 ccw(c-16.385,-10.05) -16.385,-10.25 16.385,-10.25 ccw(c16.385,-10.05) 16.558,-10.15 16.973,-9.43 ccw(c16.8,-9.33) 17,-9.33 17,0.75 13.5,0.75 13.5,-1 ; 15.55,-6 14.7,-6 14.7,-0.5 15.55,-0.5 ; 15.55,-6 15.55,-0.5
Keep-Out Layer:
  board cut-out: -19.55,-10.5 -19.55,1 -15.2,1 -15.2,-7.05 -14.3,-7.05 -14.3,-1.85 -14.3,-1.731 -14.209,-1.51 -14.04,-1.341 -13.819,-1.25 -13.7,-1.25 13.7,-1.25 13.819,-1.25 14.04,-1.341 14.209,-1.51 14.3,-1.731 14.3,-1.85 14.3,-7.05 15.2,-7.05 15.2,1 19.55,1 19.55,-10.5
Mechanical 1:
  lines w0.635: -15.2,1 -15.2,-7.05 -14.3,-7.05 -14.3,-1.85 cw(c-13.7,-1.85) -13.7,-1.25 13.7,-1.25 cw(c13.7,-1.85) 14.3,-1.85 14.3,-7.05 15.2,-7.05 15.2,1
Mechanical 8:
  drawing of 186 lines, arcs and shapes, not listed
Mechanical 14:
  lines w0.1: -15.55,-7.25 -12.55,-7.25 -12.55,-7.95 ccw(c-12.25,-7.95) -12.25,-8.25 12.25,-8.25 ccw(c12.25,-7.95) 12.55,-7.95 12.55,-7.25 15.55,-7.25 ; -15.55,0.75 -15.55,-0.5 ; -15.15,-7.25 -15.15,-6 ; -15.15,-0.5 -15.15,0.75 ; -14.935,-10.25 cw(c-14.935,-10.05) -15.108,-10.15 -15.5,-9.471 cw(c-15.161,-9.278) -15.55,-9.25 -15.55,-6 ; -13.5,-2.65 13.5,-2.65 ; -12.55,-7.75 12.55,-7.75 ; -11.4,-2.15 -11.4,-3.15 -13.5,-3.15 -13.5,-1 ; -10.6,-2.15 -10.6,-3.15 10.6,-3.15 10.6,-2.15 ; 11.4,-2.15 11.4,-3.15 13.5,-3.15 13.5,-1 ; 14.935,-10.25 ccw(c14.935,-10.05) 15.108,-10.15 15.5,-9.471 ccw(c15.161,-9.278) 15.55,-9.25 15.55,-6 ; 15.15,-7.25 15.15,-6 ; 15.15,-0.5 15.15,0.75 ; 15.55,0.75 15.55,-0.5 ; -15.55,-6 -15.55,-0.5 ; -15.55,-6 -14.7,-6 -14.7,-0.5 -15.55,-0.5 ; -13.5,-1 ccw(c-13.25,-1) -13.25,-1.25 -13.2,-1.25 -13.2,-2.15 13.2,-2.15 13.2,-1.25 13.25,-1.25 ccw(c13.25,-1) 13.5,-1 ; -13.5,-1 -13.5,0.75 -17,0.75 -17,-9.33 ccw(c-16.8,-9.33) -16.973,-9.43 -16.558,-10.15 ccw(c-16.385,-10.05) -16.385,-10.25 16.385,-10.25 ccw(c16.385,-10.05) 16.558,-10.15 16.973,-9.43 ccw(c16.8,-9.33) 17,-9.33 17,0.75 13.5,0.75 13.5,-1 ; 15.55,-6 14.7,-6 14.7,-0.5 15.55,-0.5 ; 15.55,-6 15.55,-0.5
Mechanical 15:
  lines w0.05: -17.25,-10.5 17.25,-10.5 17.25,1.25 -17.25,1.25 -17.25,-10.5
Drill Drawing:
  lines w0.1: -15.2,0 -15.2,2 ; -14.3,-5.45 -14.3,-3.45 ; -14.26,0.658 -15.2,1 ; -14.26,1.342 -15.2,1 ; -13.702,-2.332 -14.124,-1.426 ; -13.36,-4.792 -14.3,-4.45 ; -13.36,-4.108 -14.3,-4.45 ; -13.218,-1.848 -14.124,-1.426 ; -11.2,-2.877 -12.673,-2.877 -14.124,-1.426 ; -4.1,1 -15.2,1 ; 3.116,1 15.2,1 ; 8.174,-4.45 -14.3,-4.45 ; 10.438,-7.05 13.7,-7.05 ; 10.438,-1.25 13.7,-1.25 ; 11.095,-6.11 11.438,-7.05 ; 11.095,-2.19 11.438,-1.25 ; 11.78,-6.11 11.438,-7.05 ; 11.78,-2.19 11.438,-1.25 ; 12.26,-4.45 14.3,-4.45 ; 13.36,-4.792 14.3,-4.45 ; 13.36,-4.108 14.3,-4.45 ; 14.26,0.658 15.2,1 ; 14.26,1.342 15.2,1 ; 14.3,-5.45 14.3,-3.45 ; 15.2,0 15.2,2 ; 15.8,-7.05 19.663,-7.05 ; 15.8,1 19.663,1 ; 18.32,-6.11 18.663,-7.05 ; 18.32,0.06 18.663,1 ; 19.005,-6.11 18.663,-7.05 ; 19.005,0.06 18.663,1 ; 11.438,-7.05 11.438,-1.25 ; 18.663,-7.05 18.663,1
  text "+0" at 16.6,-2 h1
  text "-0.1" at 17.9,-2 h1
  text "8.05" at 18.425,-5.225 h1
  text "+" at -0.493,0.15 h1
  text "-0.1" at -0.493,0.947 h1
  text "30.4" at 2.65,1.65 h1
  text "+" at -0.827,-6.311 h1
  text "-0.05" at -0.827,-5.539 h1
  text "28.6" at 2.2,-4.825 h1
  text "+0" at 8.823,-3.734 h1
  text "-0.1" at 10.148,-3.709 h1
  text "5.8" at 11.05,-5.8 h1
  text "r0.6" at -8.4,-2.4 h1
3D body "FCI_10030570-2112LF.stp": height 2.33, standoff -2.67, extent -17,-10.25 17,0.75

## FCI_10053826-100ABTLF [mm] "26 Contacts, Pitch 1mm, Surface Mount ExpressCard Host Connector"
height 5.5
pads (28):
  rect 0.7x2 smd: 1(-12.5,0) 2(-11.5,0) 3(-10.5,0) 4(-9.5,0) 5(-8.5,0) 6(-7.5,0) 7(-6.5,0) 8(-5.5,0) 9(-4.5,0) 10(-3.5,0) 11(-2.5,0) 12(-1.5,0) 13(-0.5,0) 14(0.5,0) 15(1.5,0) 16(2.5,0) 17(3.5,0) 18(4.5,0) 19(5.5,0) 20(6.5,0) 21(7.5,0) 22(8.5,0) 23(9.5,0) 24(10.5,0) 25(11.5,0) 26(12.5,0)
  round 1 hole 2 unplated mask+0.5: Mec1(-17.1,-3.5)
  round 1 hole 1.6 unplated mask+0.3: Mec2(17.1,-3.5)
Top Layer keep-out:
  region: -19.2,-0.8 -13.2,-0.8 -13.2,-1.3 13.2,-1.3 13.2,-0.8 19.2,-0.8 19.2,-11.75 -19.2,-11.75
Top Overlay:
  circle w0.25: c-12.5,1.8 r0.125
  lines w0.2: -17.032,-14.648 ccw(c-17.094,-13.819) -16.497,-14.397 -16.1,-14 ccw(c-16.676,-13.408) -15.85,-13.397 -15.85,-4.3 ; -15.3,-3.75 15.85,-3.75 15.85,-13.397 ccw(c16.676,-13.408) 16.1,-14 16.497,-14.397 ccw(c17.094,-13.819) 17.107,-14.65 ; -13.754,-3.75 -13.754,-13.5 cw(c-14.55,-13.419) -13.984,-13.984 -14.416,-14.416 cw(c-14.981,-13.85) -14.981,-14.65 -19.1,-14.65 -19.1,-1.5 19.1,-1.5 19.1,-14.65 14.981,-14.65 cw(c14.981,-13.85) 14.416,-14.416 13.984,-13.984 cw(c14.55,-13.419) 13.754,-13.5 13.754,-3.75 ; -13.6,-3.75 -13.6,-10.25 13.6,-10.25 13.6,-3.75
Mechanical 8:
  drawing of 174 lines, arcs and shapes, not listed
Mechanical 14:
  lines w0.1: -17.032,-14.648 ccw(c-17.094,-13.819) -16.497,-14.397 -16.1,-14 ccw(c-16.676,-13.408) -15.85,-13.397 -15.85,-3.75 15.85,-3.75 15.85,-13.397 ccw(c16.676,-13.408) 16.1,-14 16.497,-14.397 ccw(c17.094,-13.819) 17.107,-14.65 ; -13.754,-3.75 -13.754,-13.5 cw(c-14.55,-13.419) -13.984,-13.984 -14.416,-14.416 cw(c-14.981,-13.85) -14.981,-14.65 -19.1,-14.65 -19.1,-1.5 19.1,-1.5 19.1,-14.65 14.981,-14.65 cw(c14.981,-13.85) 14.416,-14.416 13.984,-13.984 cw(c14.55,-13.419) 13.754,-13.5 13.754,-3.75 ; -13.6,-3.75 -13.6,-10.25 13.6,-10.25 13.6,-3.75
Mechanical 15:
  lines w0.05: -19.35,-14.9 19.35,-14.9 19.35,1.25 -19.35,1.25 -19.35,-14.9
3D body "FCI_10053826-100ABTLF.stp": height 5.5, standoff -0.9, extent -19.55,-14.65 19.1,0.604

## FCI_10058937-100ABTLF [mm] "26 Contacts, Pitch 1mm, Surface Mount ExpressCard Host Connector"
height 5.5
pads (28):
  rect 0.7x2 smd: 1(-12.5,0) 2(-11.5,0) 3(-10.5,0) 4(-9.5,0) 5(-8.5,0) 6(-7.5,0) 7(-6.5,0) 8(-5.5,0) 9(-4.5,0) 10(-3.5,0) 11(-2.5,0) 12(-1.5,0) 13(-0.5,0) 14(0.5,0) 15(1.5,0) 16(2.5,0) 17(3.5,0) 18(4.5,0) 19(5.5,0) 20(6.5,0) 21(7.5,0) 22(8.5,0) 23(9.5,0) 24(10.5,0) 25(11.5,0) 26(12.5,0)
  round 1 hole 2 unplated mask+0.5: Mec1(-17.1,-3.5)
  round 1 hole 1.6 unplated mask+0.3: Mec2(17.1,-3.5)
Top Layer keep-out:
  region: -19.2,-0.8 -13.2,-0.8 -13.2,-1.3 13.2,-1.3 13.2,-0.8 19.2,-0.8 19.2,-11.75 -19.2,-11.75
Top Overlay:
  drawing of 182 lines, arcs and shapes, not listed
Mechanical 8:
  drawing of 174 lines, arcs and shapes, not listed
Mechanical 14:
  drawing of 181 lines, arcs and shapes, not listed
Mechanical 15:
  lines w0.05: -19.35,-14.9 -19.35,1.25 19.35,1.25 19.35,-14.9 -19.35,-14.9
3D body "FCI_10058937-100ABTLF.stp": height 5.5, standoff -0.9, extent -19.55,-14.65 19.1,0.604

## FCI_10061913-103TLF [mm] "164 Positions PCI Express Surface Mount Card Edge Connector"
height 11.1
pads (168):
  rect 0.7x2 smd: A1(-41.5,3.6) A2(-40.5,3.6) A3(-39.5,3.6) A4(-38.5,3.6) A5(-37.5,3.6) A6(-36.5,3.6) A7(-35.5,3.6) A8(-34.5,3.6) A9(-33.5,3.6) A10(-32.5,3.6) A11(-31.5,3.6) A12(-28.5,3.6) A13(-27.5,3.6) A14(-26.5,3.6) A15(-25.5,3.6) A16(-24.5,3.6) A17(-23.5,3.6) A18(-22.5,3.6) A19(-21.5,3.6) A20(-20.5,3.6) A21(-19.5,3.6) A22(-18.5,3.6) A23(-17.5,3.6) A24(-16.5,3.6) A25(-15.5,3.6) A26(-14.5,3.6) A27(-13.5,3.6) A28(-12.5,3.6) A29(-11.5,3.6) A30(-10.5,3.6) A31(-9.5,3.6) A32(-8.5,3.6) A33(-7.5,3.6) A34(-6.5,3.6) A35(-5.5,3.6) A36(-4.5,3.6) A37(-3.5,3.6) A38(-2.5,3.6) A39(-1.5,3.6) A40(-0.5,3.6) A41(0.5,3.6) A42(1.5,3.6) A43(2.5,3.6) A44(3.5,3.6) A45(4.5,3.6) A46(5.5,3.6) A47(6.5,3.6) A48(7.5,3.6) A49(8.5,3.6) A50(9.5,3.6) A51(10.5,3.6) A52(11.5,3.6) A53(12.5,3.6) A54(13.5,3.6) A55(14.5,3.6) A56(15.5,3.6) A57(16.5,3.6) A58(17.5,3.6) A59(18.5,3.6) A60(19.5,3.6) A61(20.5,3.6) A62(21.5,3.6) A63(22.5,3.6) A64(23.5,3.6) A65(24.5,3.6) A66(25.5,3.6) A67(26.5,3.6) A68(27.5,3.6) A69(28.5,3.6) A70(29.5,3.6) A71(30.5,3.6) A72(31.5,3.6) A73(32.5,3.6) A74(33.5,3.6) A75(34.5,3.6) A76(35.5,3.6) A77(36.5,3.6) A78(37.5,3.6) A79(38.5,3.6) A80(39.5,3.6) A81(40.5,3.6) A82(41.5,3.6) B1(-41.5,-3.6) B2(-40.5,-3.6) B3(-39.5,-3.6) B4(-38.5,-3.6) B5(-37.5,-3.6) B6(-36.5,-3.6) B7(-35.5,-3.6) B8(-34.5,-3.6) B9(-33.5,-3.6) B10(-32.5,-3.6) B11(-31.5,-3.6) B12(-28.5,-3.6) B13(-27.5,-3.6) B14(-26.5,-3.6) B15(-25.5,-3.6) B16(-24.5,-3.6) B17(-23.5,-3.6) B18(-22.5,-3.6) B19(-21.5,-3.6) B20(-20.5,-3.6) B21(-19.5,-3.6) B22(-18.5,-3.6) B23(-17.5,-3.6) B24(-16.5,-3.6) B25(-15.5,-3.6) B26(-14.5,-3.6) B27(-13.5,-3.6) B28(-12.5,-3.6) B29(-11.5,-3.6) B30(-10.5,-3.6) B31(-9.5,-3.6) B32(-8.5,-3.6) B33(-7.5,-3.6) B34(-6.5,-3.6) B35(-5.5,-3.6) B36(-4.5,-3.6) B37(-3.5,-3.6) B38(-2.5,-3.6) B39(-1.5,-3.6) B40(-0.5,-3.6) B41(0.5,-3.6) B42(1.5,-3.6) B43(2.5,-3.6) B44(3.5,-3.6) B45(4.5,-3.6) B46(5.5,-3.6) B47(6.5,-3.6) B48(7.5,-3.6) B49(8.5,-3.6) B50(9.5,-3.6) B51(10.5,-3.6) B52(11.5,-3.6) B53(12.5,-3.6) B54(13.5,-3.6) B55(14.5,-3.6) B56(15.5,-3.6) B57(16.5,-3.6) B58(17.5,-3.6) B59(18.5,-3.6) B60(19.5,-3.6) B61(20.5,-3.6) B62(21.5,-3.6) B63(22.5,-3.6) B64(23.5,-3.6) B65(24.5,-3.6) B66(25.5,-3.6) B67(26.5,-3.6) B68(27.5,-3.6) B69(28.5,-3.6) B70(29.5,-3.6) B71(30.5,-3.6) B72(31.5,-3.6) B73(32.5,-3.6) B74(33.5,-3.6) B75(34.5,-3.6) B76(35.5,-3.6) B77(36.5,-3.6) B78(37.5,-3.6) B79(38.5,-3.6) B80(39.5,-3.6) B81(40.5,-3.6) B82(41.5,-3.6)
  rect 3x5 smd: MECH1(-44.5,0) MECH2(44.5,0)
  round 1 hole 1.2 unplated mask+0.1: POS1(-29.85,0) POS2(43.3,0)
Top Overlay:
  lines w0.2: -44.505,-2.9 -44.505,-3.725 ; -44.505,2.9 -44.505,3.725 -42.25,3.725 ; -42.25,-3.725 -44.505,-3.725 ; -40.505,-5.075 -44.505,-5.075 -44.505,-3.725 ; -39.505,-5.075 -35.505,-5.075 ; -34.505,-5.075 -30.505,-5.075 -30.505,-3.725 ; -30.75,-3.725 -29.25,-3.725 ; -30.75,3.725 -29.25,3.725 ; -29.505,-3.725 -29.505,-5.075 -25.505,-5.075 ; -29.115,-0.678 -29.115,-0.9 42.535,-0.9 42.535,-0.644 ; -29.115,0.678 -29.115,0.9 42.535,0.9 42.535,0.644 ; -24.505,-5.075 -20.505,-5.075 ; -19.505,-5.075 -15.505,-5.075 ; -14.505,-5.075 -10.505,-5.075 ; -9.505,-5.075 -5.505,-5.075 ; -4.505,-5.075 -0.505,-5.075 ; 0.495,-5.075 4.495,-5.075 ; 5.495,-5.075 9.495,-5.075 ; 10.495,-5.075 14.495,-5.075 ; 15.495,-5.075 19.495,-5.075 ; 20.495,-5.075 24.495,-5.075 ; 25.495,-5.075 29.495,-5.075 ; 30.495,-5.075 34.495,-5.075 ; 35.495,-5.075 39.495,-5.075 ; 40.503,-5.08 44.495,-5.08 44.495,-2.9 ; 42.25,-3.725 44.495,-3.725 ; 42.25,3.725 44.495,3.725 44.495,2.9 ; -42.545,-0.9 -42.545,0.9 -30.895,0.9 -30.895,-0.9 -42.545,-0.9
Mechanical 8:
  drawing of 190 lines, arcs and shapes, not listed
Mechanical 14:
  lines w0.1: -44.505,-1.975 -45.505,-1.975 -45.505,2.025 -44.505,2.025 ; -40.505,-3.725 -40.505,-5.075 -44.505,-5.075 -44.505,-3.725 ; -39.505,-3.725 -39.505,-5.075 -35.505,-5.075 -35.505,-3.725 ; -34.505,-3.725 -34.505,-5.075 -30.505,-5.075 -30.505,-3.725 ; -29.505,-3.725 -29.505,-5.075 -25.505,-5.075 -25.505,-3.725 ; -24.505,-3.725 -24.505,-5.075 -20.505,-5.075 -20.505,-3.725 ; -19.505,-3.725 -19.505,-5.075 -15.505,-5.075 -15.505,-3.725 ; -14.505,-3.725 -14.505,-5.075 -10.505,-5.075 -10.505,-3.725 ; -9.505,-3.725 -9.505,-5.075 -5.505,-5.075 -5.505,-3.725 ; -4.505,-3.725 -4.505,-5.075 -0.505,-5.075 -0.505,-3.725 ; 0.495,-3.725 0.495,-5.075 4.495,-5.075 4.495,-3.725 ; 5.495,-3.725 5.495,-5.075 9.495,-5.075 9.495,-3.725 ; 10.495,-3.725 10.495,-5.075 14.495,-5.075 14.495,-3.725 ; 15.495,-3.725 15.495,-5.075 19.495,-5.075 19.495,-3.725 ; 20.495,-3.725 20.495,-5.075 24.495,-5.075 24.495,-3.725 ; 25.495,-3.725 25.495,-5.075 29.495,-5.075 29.495,-3.725 ; 30.495,-3.725 30.495,-5.075 34.495,-5.075 34.495,-3.725 ; 35.495,-3.725 35.495,-5.075 39.495,-5.075 39.495,-3.725 ; 40.495,-3.725 40.503,-5.08 44.495,-5.08 44.495,3.725 -44.505,3.725 -44.505,-3.725 ; 44.495,-3.725 -44.505,-3.725 ; 44.495,-1.975 45.495,-1.975 45.495,2.025 44.495,2.025 ; -42.545,-0.9 -42.545,0.9 -30.895,0.9 -30.895,-0.9 -42.545,-0.9 ; -29.115,-0.9 -29.115,0.9 42.535,0.9 42.535,-0.9 -29.115,-0.9
Mechanical 15:
  lines w0.05: -46.25,-5.33 46.25,-5.33 46.25,4.85 -46.25,4.85 -46.25,-5.33
3D body "FCI_10061913-103TLF.stp": height 11.1, standoff -0.9, extent -45.505,-5.075 45.495,4.125

## FCI_10122424-101LF [mm] "20 Position, Pitch 0.8mm SFP Receptacle (Small Form-factor Pluggable)"
height 5.4
pads (22):
  rect 2x0.5 smd: 1(-4.1,3.395) 2(-4.1,2.595) 3(-4.1,1.795) 4(-4.1,0.995) 5(-4.1,0.195) 6(-4.1,-0.605) 7(-4.1,-1.405) 8(-4.1,-2.205) 9(-4.1,-3.005) 10(-4.1,-3.805) 11(4.1,-3.405) 12(4.1,-2.605) 13(4.1,-1.805) 14(4.1,-1.005) 15(4.1,-0.205) 16(4.1,0.595) 17(4.1,1.395) 18(4.1,2.195) 19(4.1,2.995) 20(4.1,3.795)
  round 1 hole 1.55 unplated mask+0.275: MTG1(0,4.795) MTG2(0,-4.805)
Top Overlay:
  circle w0.25: c-4.955,4.323 r0.125
  lines w0.2: -40,-7.769 -42.4,-7.769 -42.4,7.779 -40,7.779 ; -3.75,-4.45 -3.75,-5.5 -0.816,-5.5 ; -3.75,4.05 -3.75,5.5 -0.816,5.5 ; 0.816,-5.5 3.95,-5.5 3.95,-4.05 ; 0.816,5.5 2.97,5.5 3.95,4.52 3.95,4.45 ; 5.5,-7.769 6.3,-7.769 6.3,-5.772 ; 5.5,7.779 6.3,7.779 6.3,5.782
Mechanical 8:
  lines w0.1: -0.5,-4.8 0,-4.8 ; -0.5,0 0,0 ; -0.5,4.8 0,4.8 ; 0,-5.3 0,-4.8 ; 0,-4.3 0,-4.8 ; 0,-0.5 0,0 ; 0,0.5 0,0 ; 0,4.3 0,4.8 ; 0,5.3 0,4.8 ; 0.5,-4.8 0,-4.8 ; 0.5,0 0,0 ; 0.5,4.8 0,4.8 ; -5.1,-4.05 -5.1,-3.55 ; -5.1,-4.05 -3.1,-4.05 -3.1,-3.55 -5.1,-3.55 ; -5.1,-4.05 -4.1,-3.8 -5.1,-3.55 ; -5.1,-3.25 -5.1,-2.75 ; -5.1,-3.25 -3.1,-3.25 -3.1,-2.75 -5.1,-2.75 ; -5.1,-3.25 -4.1,-3 -5.1,-2.75 ; -5.1,-2.45 -5.1,-1.95 ; -5.1,-2.45 -3.1,-2.45 -3.1,-1.95 -5.1,-1.95 ; -5.1,-2.45 -4.1,-2.2 -5.1,-1.95 ; -5.1,-1.65 -5.1,-1.15 ; -5.1,-1.65 -3.1,-1.65 -3.1,-1.15 -5.1,-1.15 ; -5.1,-1.65 -4.1,-1.4 -5.1,-1.15 ; -5.1,-0.85 -5.1,-0.35 ; -5.1,-0.85 -3.1,-0.85 -3.1,-0.35 -5.1,-0.35 ; -5.1,-0.85 -4.1,-0.6 -5.1,-0.35 ; -5.1,-0.05 -5.1,0.45 ; -5.1,-0.05 -3.1,-0.05 -3.1,0.45 -5.1,0.45 ; -5.1,-0.05 -4.1,0.2 -5.1,0.45 ; -5.1,0.75 -5.1,1.25 ; -5.1,0.75 -3.1,0.75 -3.1,1.25 -5.1,1.25 ; -5.1,0.75 -4.1,1 -5.1,1.25 ; -5.1,1.55 -5.1,2.05 ; -5.1,1.55 -3.1,1.55 -3.1,2.05 -5.1,2.05 ; -5.1,1.55 -4.1,1.8 -5.1,2.05 ; -5.1,2.35 -5.1,2.85 ; -5.1,2.35 -3.1,2.35 -3.1,2.85 -5.1,2.85 ; -5.1,2.35 -4.1,2.6 -5.1,2.85 ; -5.1,3.15 -5.1,3.65 ; -5.1,3.15 -3.1,3.15 -3.1,3.65 -5.1,3.65 ; -5.1,3.15 -4.1,3.4 -5.1,3.65 ; 5.1,-3.65 3.1,-3.65 3.1,-3.15 5.1,-3.15 ; 5.1,-3.65 5.1,-3.15 ; 5.1,-3.65 4.1,-3.4 5.1,-3.15 ; 5.1,-2.85 3.1,-2.85 3.1,-2.35 5.1,-2.35 ; 5.1,-2.85 5.1,-2.35 ; 5.1,-2.85 4.1,-2.6 5.1,-2.35 ; 5.1,-2.05 3.1,-2.05 3.1,-1.55 5.1,-1.55 ; 5.1,-2.05 5.1,-1.55 ; 5.1,-2.05 4.1,-1.8 5.1,-1.55 ; 5.1,-1.25 3.1,-1.25 3.1,-0.75 5.1,-0.75 ; 5.1,-1.25 5.1,-0.75 ; 5.1,-1.25 4.1,-1 5.1,-0.75 ; 5.1,-0.45 3.1,-0.45 3.1,0.05 5.1,0.05 ; 5.1,-0.45 5.1,0.05 ; 5.1,-0.45 4.1,-0.2 5.1,0.05 ; 5.1,0.35 3.1,0.35 3.1,0.85 5.1,0.85 ; 5.1,0.35 5.1,0.85 ; 5.1,0.35 4.1,0.6 5.1,0.85 ; 5.1,1.15 3.1,1.15 3.1,1.65 5.1,1.65 ; 5.1,1.15 5.1,1.65 ; 5.1,1.15 4.1,1.4 5.1,1.65 ; 5.1,1.95 3.1,1.95 3.1,2.45 5.1,2.45 ; 5.1,1.95 5.1,2.45 ; 5.1,1.95 4.1,2.2 5.1,2.45 ; 5.1,2.75 3.1,2.75 3.1,3.25 5.1,3.25 ; 5.1,2.75 5.1,3.25 ; 5.1,2.75 4.1,3 5.1,3.25 ; 5.1,3.55 3.1,3.55 3.1,4.05 5.1,4.05 ; 5.1,3.55 5.1,4.05 ; 5.1,3.55 4.1,3.8 5.1,4.05
Mechanical 14:
  circle w0.1: c-4.955,4.323 r0.125
  lines w0.1: -3.75,-3.9 -4.418,-3.9 -4.418,-3.7 -3.75,-3.7 ; -3.75,-3.1 -4.418,-3.1 -4.418,-2.9 -3.75,-2.9 ; -3.75,-2.3 -4.418,-2.3 -4.418,-2.1 -3.75,-2.1 ; -3.75,-1.5 -4.418,-1.5 -4.418,-1.3 -3.75,-1.3 ; -3.75,-0.7 -4.418,-0.7 -4.418,-0.5 -3.75,-0.5 ; -3.75,0.1 -4.418,0.1 -4.418,0.3 -3.75,0.3 ; -3.75,0.9 -4.418,0.9 -4.418,1.1 -3.75,1.1 ; -3.75,1.7 -4.418,1.7 -4.418,1.9 -3.75,1.9 ; -3.75,2.5 -4.418,2.5 -4.418,2.7 -3.75,2.7 ; -3.75,3.3 -4.418,3.3 -4.418,3.5 -3.75,3.5 ; 3.95,-3.5 4.71,-3.5 4.71,-3.3 3.95,-3.3 ; 3.95,-2.7 4.71,-2.7 4.71,-2.5 3.95,-2.5 ; 3.95,-1.9 4.71,-1.9 4.71,-1.7 3.95,-1.7 ; 3.95,-1.1 4.71,-1.1 4.71,-0.9 3.95,-0.9 ; 3.95,-0.3 4.71,-0.3 4.71,-0.1 3.95,-0.1 ; 3.95,0.5 4.71,0.5 4.71,0.7 3.95,0.7 ; 3.95,1.3 4.71,1.3 4.71,1.5 3.95,1.5 ; 3.95,2.1 4.71,2.1 4.71,2.3 3.95,2.3 ; 3.95,2.9 4.71,2.9 4.71,3.1 3.95,3.1 ; 3.95,3.7 4.71,3.7 4.71,3.9 3.95,3.9 ; -3.75,-5.5 3.95,-5.5 3.95,4.52 2.97,5.5 -3.75,5.5 -3.75,-5.5
Mechanical 15:
  lines w0.05: -5.35,-5.75 -5.35,5.75 5.35,5.75 5.35,-5.75 -5.35,-5.75
3D body "FCI_10122424-101LF.stp": height 5.4, standoff -0.9, extent -4.418,-5.5 4.71,5.5

## FCI_20021321-00010C4LF [mm] "10 Contacts, Pitch 1.27mm, Board-To-Board Connector, Vertical Receptacle, Minitek127 20021321 Series"
height 4.5
pads (10):
  rect 0.76x2.05 smd: 1(-2.54,-1.775) 2(-2.54,1.775) 3(-1.27,-1.775) 4(-1.27,1.775) 5(0,-1.775) 6(0,1.775) 7(1.27,-1.775) 8(1.27,1.775) 9(2.54,-1.775) 10(2.54,1.775)
Top Overlay:
  circle w0.25: c-2.525,-3.4 r0.125
  lines w0.2: -3.4,-1.5 -3.4,1.5 ; 3.41,-1.5 3.41,1.5
Mechanical 8:
  lines w0.05: -3.04,-1.775 -2.54,-1.775 ; -3.04,1.775 -2.54,1.775 ; -2.54,-2.275 -2.54,-1.775 ; -2.54,-1.275 -2.54,-1.775 ; -2.54,1.275 -2.54,1.775 ; -2.54,2.275 -2.54,1.775 ; -2.04,-1.775 -2.54,-1.775 ; -2.04,1.775 -2.54,1.775 ; -1.77,-1.775 -1.27,-1.775 ; -1.77,1.775 -1.27,1.775 ; -1.27,-2.275 -1.27,-1.775 ; -1.27,-1.275 -1.27,-1.775 ; -1.27,1.275 -1.27,1.775 ; -1.27,2.275 -1.27,1.775 ; -0.77,-1.775 -1.27,-1.775 ; -0.77,1.775 -1.27,1.775 ; -0.5,-1.775 0,-1.775 ; -0.5,0 0,0 ; -0.5,1.775 0,1.775 ; 0,-2.275 0,-1.775 ; 0,-1.275 0,-1.775 ; 0,-0.5 0,0 ; 0,0.5 0,0 ; 0,1.275 0,1.775 ; 0,2.275 0,1.775 ; 0.5,-1.775 0,-1.775 ; 0.5,0 0,0 ; 0.5,1.775 0,1.775 ; 0.77,-1.775 1.27,-1.775 ; 0.77,1.775 1.27,1.775 ; 1.27,-2.275 1.27,-1.775 ; 1.27,-1.275 1.27,-1.775 ; 1.27,1.275 1.27,1.775 ; 1.27,2.275 1.27,1.775 ; 1.77,-1.775 1.27,-1.775 ; 1.77,1.775 1.27,1.775 ; 2.04,-1.775 2.54,-1.775 ; 2.04,1.775 2.54,1.775 ; 2.54,-2.275 2.54,-1.775 ; 2.54,-1.275 2.54,-1.775 ; 2.54,1.275 2.54,1.775 ; 2.54,2.275 2.54,1.775 ; 3.04,-1.775 2.54,-1.775 ; 3.04,1.775 2.54,1.775 ; -2.92,-2.8 -2.92,-0.75 -2.16,-0.75 -2.16,-2.8 -2.92,-2.8 ; -2.92,0.75 -2.16,0.75 -2.16,2.8 -2.92,2.8 -2.92,0.75 ; -1.65,-2.8 -1.65,-0.75 -0.89,-0.75 -0.89,-2.8 -1.65,-2.8 ; -1.65,0.75 -0.89,0.75 -0.89,2.8 -1.65,2.8 -1.65,0.75 ; -0.38,-2.8 -0.38,-0.75 0.38,-0.75 0.38,-2.8 -0.38,-2.8 ; -0.38,0.75 0.38,0.75 0.38,2.8 -0.38,2.8 -0.38,0.75 ; 0.89,-2.8 0.89,-0.75 1.65,-0.75 1.65,-2.8 0.89,-2.8 ; 0.89,0.75 1.65,0.75 1.65,2.8 0.89,2.8 0.89,0.75 ; 2.16,-2.8 2.16,-0.75 2.92,-0.75 2.92,-2.8 2.16,-2.8 ; 2.16,0.75 2.92,0.75 2.92,2.8 2.16,2.8 2.16,0.75
Mechanical 14:
  drawing of 155 lines, arcs and shapes, not listed
Mechanical 15:
  lines w0.05: -3.65,-3.05 -3.65,3.05 3.66,3.05 3.66,-3.05 -3.65,-3.05
3D body "FCI_20021321-00010C4LF.stp": height 4.5, standoff 0, extent -3.4,-2.25 3.41,2.25